# Altium schematic symbol library PSslash2.SchLib: 1 symbol
Pins are listed as number, name and electrical type; pins without a type are passive.

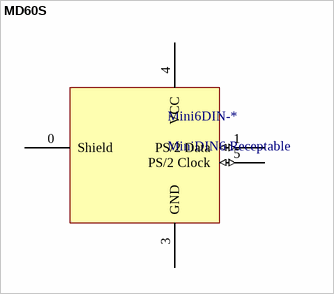
[diagram p0: symbol MD60S]

## MD60S
designator Mini6DIN-*, comment MiniDIN6 Receptable
footprint MD-60S
pins: 0 Shield, 1 PS/2 Data (io), 3 GND (power), 4 VCC (power), 5 PS/2 Clock (io)